# EAGLE library part LTC3719 (library PowerProducts)
LT-Spice library generated with : ltspice.ulp from: D:/Program Files (x86)/LTC/LTspiceIV/lib/sym/PowerProducts/LTC3720*.asy at 07.10.2012 18:31:01
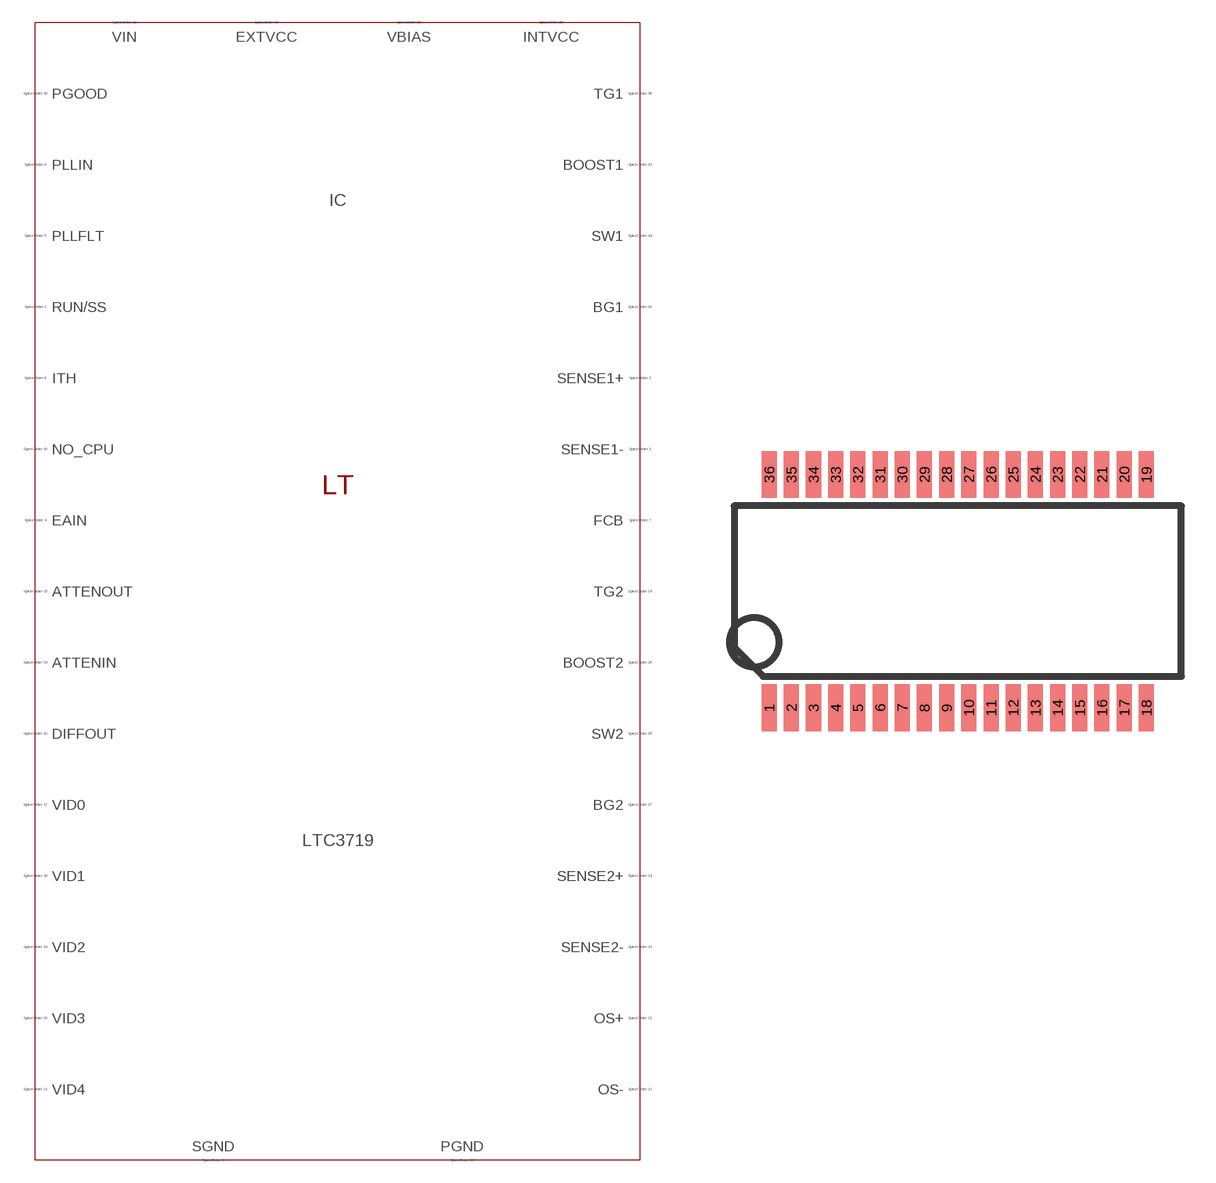
[diagram p296: symbol with the pads of SSOP36(G); footprint SSOP36(G)]

Designator prefix IC

## LTC3719 (SPICEMODEL: LTC3719.sub; SPICEPREFIX: X; VALUE2: LTC3719)  [SSOP36(G)]
1  RUN/SS  pas
2  SENSE1+  pas
3  SENSE1-  pas
4  EAIN  pas
5  PLLFLT  pas
6  PLLIN  pas
7  FCB  pas
8  ITH  pas
9  SGND  pas
10  DIFFOUT  pas
11  OS-  pas
12  OS+  pas
13  SENSE2-  pas
14  SENSE2+  pas
15  ATTENOUT  pas
16  NO_CPU  pas
17  VID0  pas
18  VID1  pas
19  VID2  pas
20  VID3  pas
21  VID4  pas
22  VBIAS  pas
23  ATTENIN  pas
24  TG2  pas
25  SW2  pas
26  BOOST2  pas
27  BG2  pas
28  PGND  pas
29  INTVCC  pas
30  EXTVCC  pas
31  BG1  pas
32  VIN  pas
33  BOOST1  pas
34  SW1  pas
35  TG1  pas
36  PGOOD  pas

## Footprint SSOP36(G) (pad centres in mm)
Package generated from: SSOP36(G).asc (!PADS-POWERPCB-V5.0-BASIC! DESIGN DATABASE ASCII FILE 1.0) with :import-pads-powerpcb-v5.ulp Version 1.0.1 at 04.10.2012 14:11:39
smd 0.66 x 2.055: 1 -8.287,-5.122; 2 -7.312,-5.122; 3 -6.338,-5.122; 4 -5.362,-5.122; 5 -4.388,-5.122; 6 -3.413,-5.122; 7 -2.438,-5.122; 8 -1.462,-5.122; 9 -0.487,-5.122; 10 0.487,-5.122; 11 1.462,-5.122; 12 2.438,-5.122; 13 3.413,-5.122; 14 4.388,-5.122; 15 5.362,-5.122; 16 6.338,-5.122; 17 7.312,-5.122; 18 8.287,-5.122; 19 8.287,5.122; 20 7.312,5.122; 21 6.338,5.122; 22 5.362,5.122; 23 4.388,5.122; 24 3.413,5.122; 25 2.438,5.122; 26 1.462,5.122; 27 0.487,5.122; 28 -0.487,5.122; 29 -1.462,5.122; 30 -2.438,5.122; 31 -3.413,5.122; 32 -4.388,5.122; 33 -5.362,5.122; 34 -6.338,5.122; 35 -7.312,5.122; 36 -8.287,5.122